# Altium footprint library R_0201.PcbLib: 1 footprints
Each footprint in its own frame and in the unit in brackets; x right, y up, seen from the top. Pads: shape width x height; smd on the part's side, far side on the other; paste and mask are expansions set on the pad; w line width, h text height; cw(c..) or ccw(c..) is an arc to the next point about the centre after c.
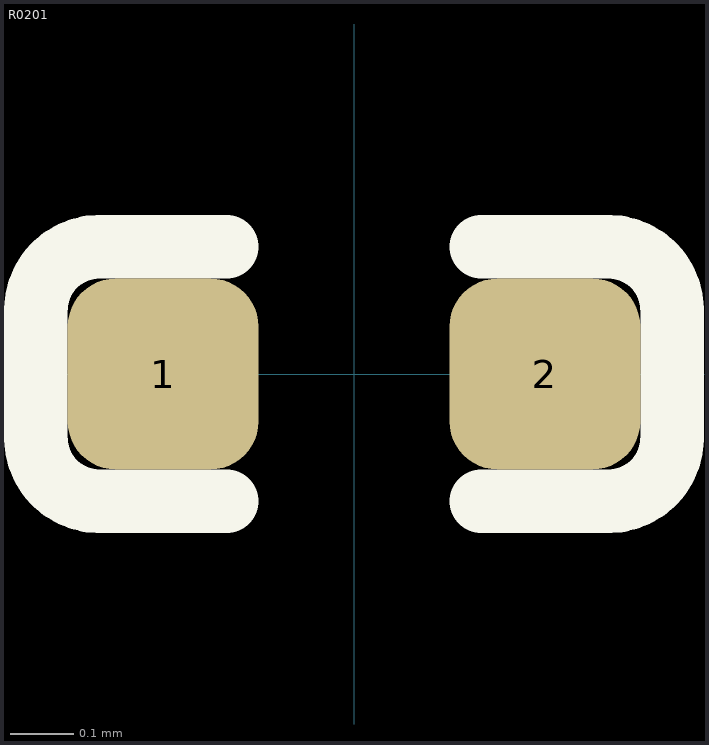
[diagram p0: the footprint, top view; thin cyan lines are the x and y axes]

## R0201 [mm]
pads (2):
  rrect50% 0.3x0.3 smd: 1(-0.3,0) 2(0.3,0)
Top Overlay:
  lines w0.1: -0.2,-0.2 -0.4,-0.2 cw(c-0.4,-0.1) -0.5,-0.1 -0.5,0.1 cw(c-0.4,0.1) -0.4,0.2 -0.2,0.2 ; 0.2,-0.2 0.4,-0.2 ccw(c0.4,-0.1) 0.5,-0.1 0.5,0.1 ccw(c0.4,0.1) 0.4,0.2 0.2,0.2
3D body "RC0201.stp": height 0.23, standoff 0, extent -0.3,-0.15 0.3,0.15